# EAGLE library part MA08-1 (library 000_ICS_2021)
PIN HEADER
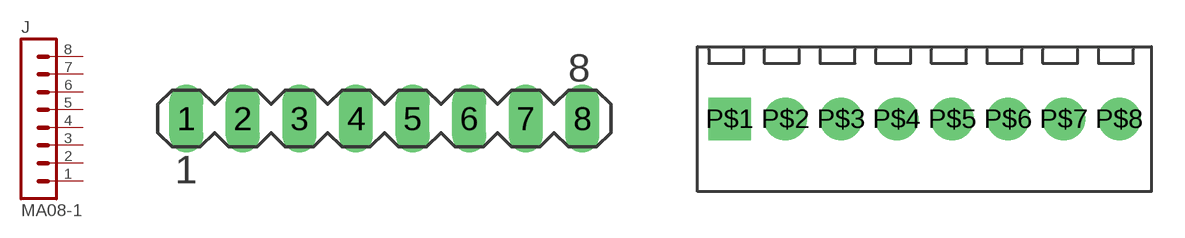
[diagram p18: symbol with the pads of MA08-1; footprints MA08-1, OSTVN08A150]

Designator prefix J

## MA08-1 (OC_FARNELL: unknown; OC_NEWARK: unknown)  [MA08-1]
1  1  pas
2  2  pas
3  3  pas
4  4  pas
5  5  pas
6  6  pas
7  7  pas
8  8  pas

## MA08-1OSTVN08A150(SCREWTERMINAL)  [OSTVN08A150]
P$1  1  pas
P$2  2  pas
P$3  3  pas
P$4  4  pas
P$5  5  pas
P$6  6  pas
P$7  7  pas
P$8  8  pas

## Footprint MA08-1 (pad centres in mm)
PIN HEADER
drill 1.016 long: 1 -8.89,0; 2 -6.35,0; 3 -3.81,0; 4 -1.27,0; 5 1.27,0; 6 3.81,0; 7 6.35,0; 8 8.89,0

## Footprint OSTVN08A150 (pad centres in mm)
drill 1.3 square: P$1 -8.89,0
drill 1.3: P$2 -6.35,0; P$3 -3.81,0; P$4 -1.27,0; P$5 1.27,0; P$6 3.81,0; P$7 6.35,0; P$8 8.89,0